# EAGLE library part THS7002 (library TI)
70MHz Dual Programmable Gain Amplifier
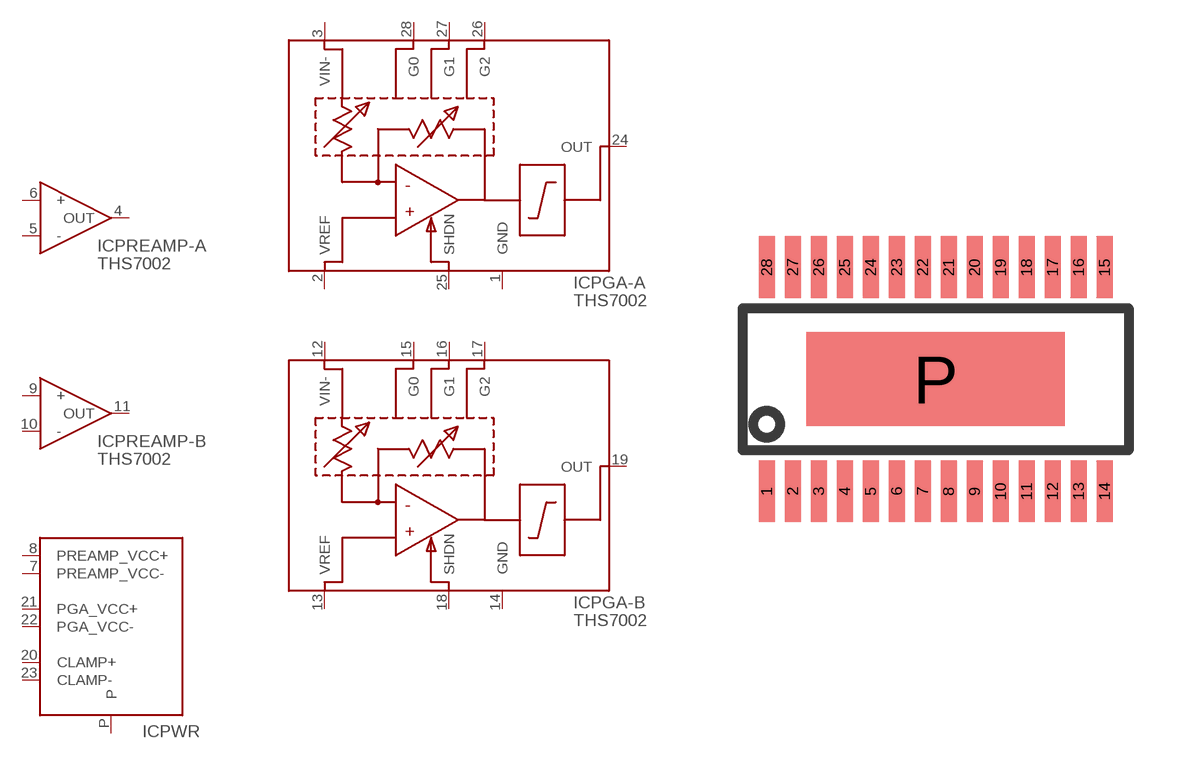
[diagram p23: symbol with the pads of MSOP28-P; footprint MSOP28-P]

Designator prefix IC; gates PREAMP-A=OPAMP PREAMP-B=OPAMP PGA-A=THS7001-PGA PGA-B=THS7001-PGA PWR=THS7001-PWR

## THS7002PWP  [MSOP28-P]
1  PGA-A:GND
2  PGA-A:VREF
3  PGA-A:VIN-
4  PREAMP-A:OUT
5  PREAMP-A:-
6  PREAMP-A:+
7  PWR:PREAMP_VCC-  pwr
8  PWR:PREAMP_VCC+  pwr
9  PREAMP-B:+
10  PREAMP-B:-
11  PREAMP-B:OUT
12  PGA-B:VIN-
13  PGA-B:VREF
14  PGA-B:GND
15  PGA-B:G0
16  PGA-B:G1
17  PGA-B:G2
18  PGA-B:SHDN
19  PGA-B:OUT
20  PWR:CLAMP+
21  PWR:PGA_VCC+  pwr
22  PWR:PGA_VCC-  pwr
23  PWR:CLAMP-
24  PGA-A:OUT
25  PGA-A:SHDN
26  PGA-A:G2
27  PGA-A:G1
28  PGA-A:G0
P  PWR:P

## Footprint MSOP28-P (pad centres in mm)
smd 0.4 x 1.55: 1 -4.225,-2.8; 2 -3.575,-2.8; 3 -2.925,-2.8; 4 -2.275,-2.8; 5 -1.625,-2.8; 6 -0.975,-2.8; 7 -0.325,-2.8; 8 0.325,-2.8; 9 0.975,-2.8; 10 1.625,-2.8; 11 2.275,-2.8; 12 2.925,-2.8; 13 3.575,-2.8; 14 4.225,-2.8; 15 4.225,2.8; 16 3.575,2.8; 17 2.925,2.8; 18 2.275,2.8; 19 1.625,2.8; 20 0.975,2.8; 21 0.325,2.8; 22 -0.325,2.8; 23 -0.975,2.8; 24 -1.625,2.8; 25 -2.275,2.8; 26 -2.925,2.8; 27 -3.575,2.8; 28 -4.225,2.8
smd 6.46 x 2.35: P 0,0